# EAGLE library part 1_BIT_SELECT (library p.peter-gator)
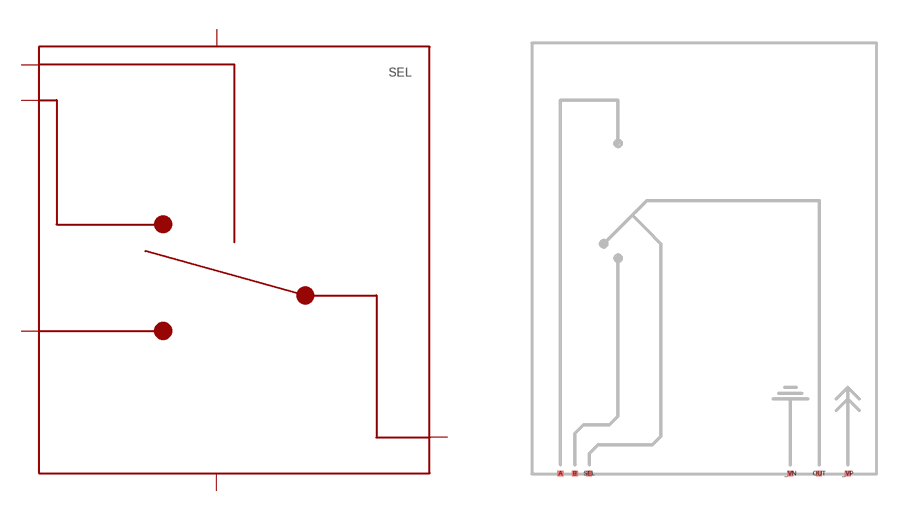
[diagram p1: symbol with the pads of SELECTOR-2-LANE-NOMUX; footprint SELECTOR-2-LANE-NOMUX]

Designator prefix SEL

## 1_BIT_SELECT  [SELECTOR-2-LANE-NOMUX]
_VN  _VN
_VP  _VP
A  A
B  B
OUT  OUT
SEL  SEL

## Footprint SELECTOR-2-LANE-NOMUX (pad centres in mm)
smd 0.2 x 0.2: _VN 9,0; _VP 11,0; A 1,0; B 1.5,0; OUT 10,0; SEL 2,0